# Altium footprint library FC-203_15mm.PcbLib: 1 footprints
Each footprint in its own frame and in the unit in brackets; x right, y up, seen from the top. Pads: shape width x height; smd on the part's side, far side on the other; paste and mask are expansions set on the pad; w line width, h text height; cw(c..) or ccw(c..) is an arc to the next point about the centre after c.
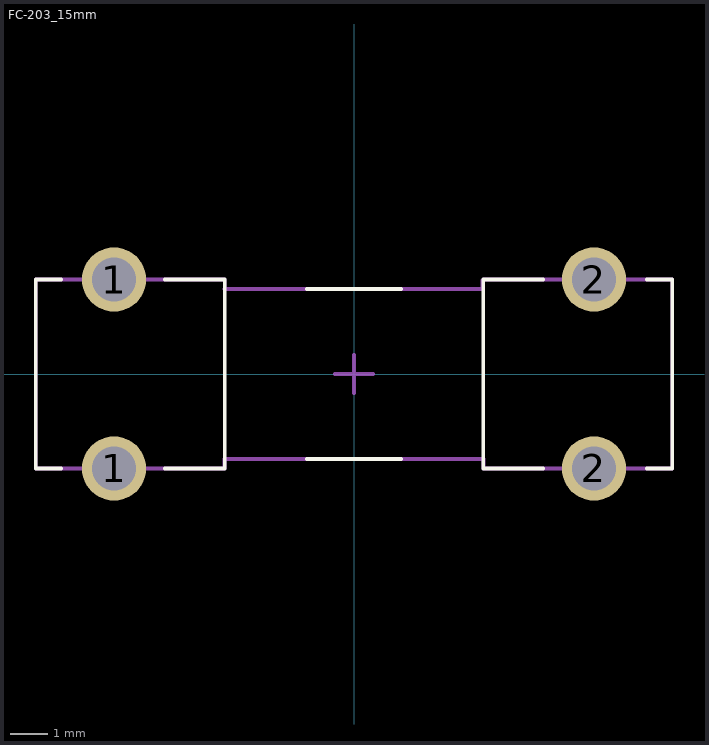
[diagram p0: the footprint, top view; thin cyan lines are the x and y axes]

## FC-203_15mm [mm]
pads (4):
  round 1.7 hole 1.17: 1(-6.35,-2.5) 1(-6.35,2.5) 2(6.35,-2.5) 2(6.35,2.5)
Top Overlay:
  lines w0.1: -7.75,-2.5 -8.42,-2.5 -8.42,2.5 -7.75,2.5 ; -5,-2.5 -3.42,-2.5 -3.42,2.5 -5,2.5 ; -1.25,-2.25 1.25,-2.25 ; -1.25,2.25 1.25,2.25 ; 5,-2.5 3.42,-2.5 3.42,2.5 5,2.5 ; 7.75,-2.5 8.42,-2.5 8.42,2.5 7.75,2.5
Mechanical 13:
  lines w0.1: -3.425,-2.495 -3.425,-2.25 3.425,-2.25 3.425,-2.495 ; -3.425,2.25 3.4,2.25 3.4,2.48 ; -3.42,-2.5 -8.42,-2.5 -8.42,2.5 -6.35,2.5 -3.42,2.5 -3.42,2.255 ; 3.42,-2.5 8.42,-2.5 8.42,2.5 6.35,2.5 3.42,2.5
Mechanical 15 (Mech15):
  lines w0.1: -0.5,0 0,0 ; 0,-0.5 0,0 ; 0,0.5 0,0 ; 0.5,0 0,0
3D body: height 9.25, standoff 4.75, extent -7.5,-2.25 7.5,2.25
3D body "0751.0042_1.STEP": height 12.01, standoff -4.99, extent -9.85,-2.975 -3.45,3.025
3D body "0751.0042_1.STEP": height 12.01, standoff -4.99, extent 3.45,-3.025 9.85,2.975